# EAGLE library part 6526 (library 326298_rev_a)
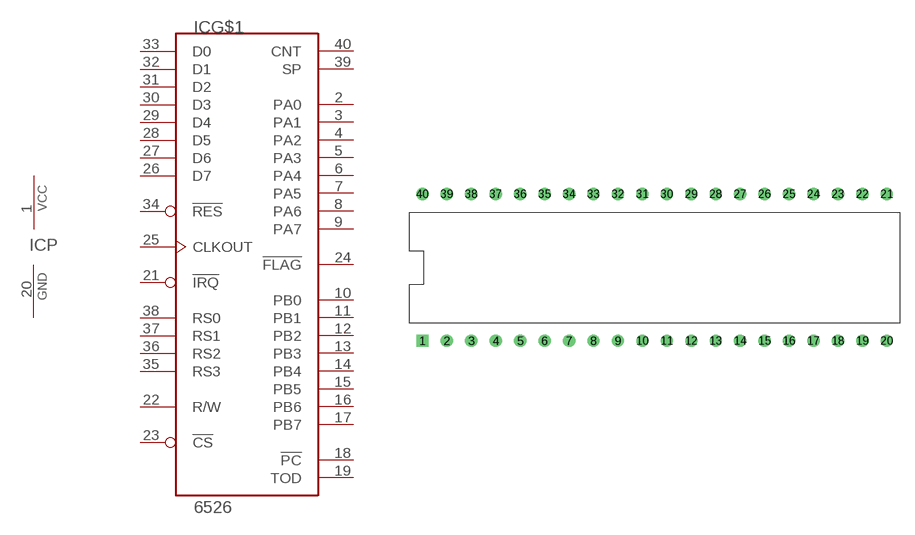
[diagram p3: symbol with the pads of DIP40; footprint DIP40]

Designator prefix IC; gates G$1=6526 P=PWRN

## 6526  [DIP40]
1  P:VCC  pwr
2  G$1:PA0
3  G$1:PA1
4  G$1:PA2
5  G$1:PA3
6  G$1:PA4
7  G$1:PA5
8  G$1:PA6
9  G$1:PA7
10  G$1:PB0
11  G$1:PB1
12  G$1:PB2
13  G$1:PB3
14  G$1:PB4
15  G$1:PB5
16  G$1:PB6
17  G$1:PB7
18  G$1:!PC!
19  G$1:TOD
20  P:GND  pwr
21  G$1:!IRQ!  oc
22  G$1:R/W  in
23  G$1:!CS!  in
24  G$1:!FLAG!  in
25  G$1:CLKOUT  in
26  G$1:D7
27  G$1:D6
28  G$1:D5
29  G$1:D4
30  G$1:D3
31  G$1:D2
32  G$1:D1
33  G$1:D0
34  G$1:!RES!  in
35  G$1:RS3  in
36  G$1:RS2  in
37  G$1:RS1  in
38  G$1:RS0  in
39  G$1:SP
40  G$1:CNT  in

## Footprint DIP40 (pad centres in mm)
drill 0.61 pad 1.27 square: 1 -24.13,-7.62
drill 0.61 pad 1.27: 2 -21.59,-7.62; 3 -19.05,-7.62; 4 -16.51,-7.62; 5 -13.97,-7.62; 6 -11.43,-7.62; 7 -8.89,-7.62; 8 -6.35,-7.62; 9 -3.81,-7.62; 10 -1.27,-7.62; 11 1.27,-7.62; 12 3.81,-7.62; 13 6.35,-7.62; 14 8.89,-7.62; 15 11.43,-7.62; 16 13.97,-7.62; 17 16.51,-7.62; 18 19.05,-7.62; 19 21.59,-7.62; 20 24.13,-7.62; 21 24.13,7.62; 22 21.59,7.62; 23 19.05,7.62; 24 16.51,7.62; 25 13.97,7.62; 26 11.43,7.62; 27 8.89,7.62; 28 6.35,7.62; 29 3.81,7.62; 30 1.27,7.62; 31 -1.27,7.62; 32 -3.81,7.62; 33 -6.35,7.62; 34 -8.89,7.62; 35 -11.43,7.62; 36 -13.97,7.62; 37 -16.51,7.62; 38 -19.05,7.62; 39 -21.59,7.62; 40 -24.13,7.62